# Altium schematic symbol library HMC981LP3E.SchLib: 1 symbol
Pins are listed as number, name and electrical type; pins without a type are passive.

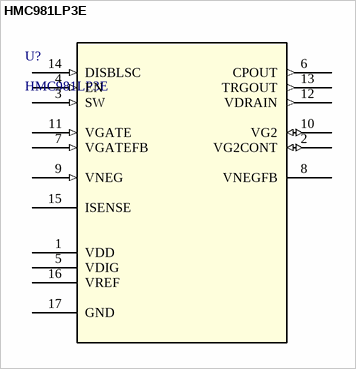
[diagram p0: symbol HMC981LP3E]

## HMC981LP3E
designator U?
Active Bias Controller SMT; Manufacturer_Name: Analog Devices Inc; Copyright: Copyright (C) 2026 Ultra Librarian. All rights reserved.; Manufacturer_Part_Number: HMC981LP3E; Datasheet: https://www.analog.com/media/en/technical-documentation/data-sheets/hmc981.pdf; RefDes: RefDes; Type: Type
footprint QFN16_3X3_ADI
pins: 1 VDD (power), 2 VG2CONT (io), 3 SW (in), 4 EN (in), 5 VDIG (power), 6 CPOUT (out), 7 VGATEFB (in), 8 VNEGFB, 9 VNEG (in), 10 VG2 (io), 11 VGATE (in), 12 VDRAIN (out), 13 TRGOUT (out), 14 DISBLSC (in), 15 ISENSE, 16 VREF (power), 17 GND (power)